# EAGLE library part STM_SPV1040 (library Z-Wave_Europe)
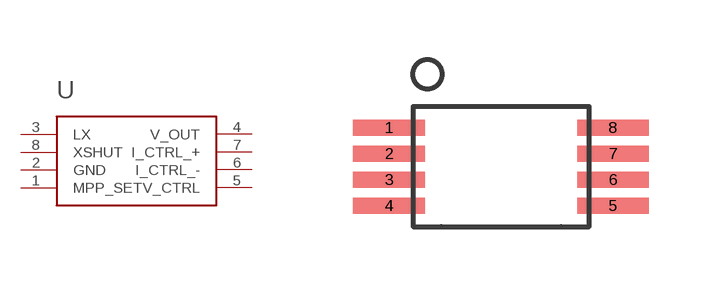
[diagram p5: symbol with the pads of TSSOP_8; footprint TSSOP_8]

Designator prefix -

## STM_SPV1040  [TSSOP_8]
1  MPP_SET
2  GND
3  LX
4  V_OUT
5  V_CTRL
6  I_CTRL_-
7  I_CTRL_+
8  XSHUT

## Footprint TSSOP_8 (pad centres in mm)
smd 1.8 x 0.4: 1 -2.8,0.975; 2 -2.8,0.325; 3 -2.8,-0.325; 4 -2.8,-0.975; 5 2.8,-0.975; 6 2.8,-0.325; 7 2.8,0.325; 8 2.8,0.975